# EAGLE library part TMM-105-XX-X-D (library con-samtec-tmm)
HEADER
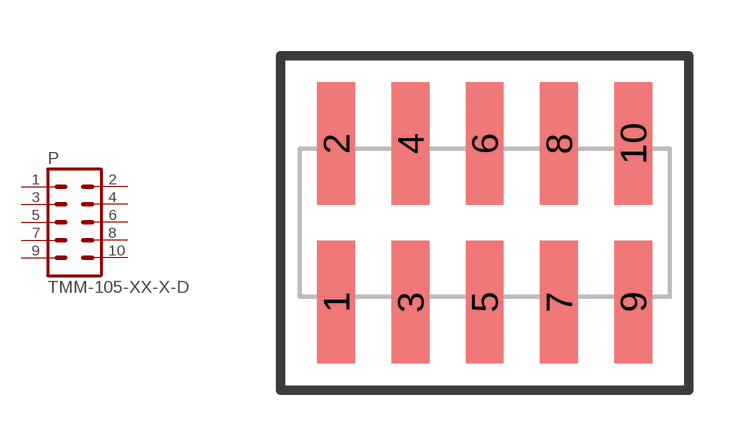
[diagram p2: symbol with the pads of TMM-105-XX-X-D; footprint TMM-105-XX-X-D]

Designator prefix P

## TMM-105-XX-X-D  [TMM-105-XX-X-D]
1  1  pas
2  2  pas
3  3  pas
4  4  pas
5  5  pas
6  6  pas
7  7  pas
8  8  pas
9  9  pas
10  10  pas

## Footprint TMM-105-XX-X-D (pad centres in mm)
HEADER
smd 1.02 x 3.3: 1 -4,-2.134; 2 -4,2.134; 3 -2,-2.134; 4 -2,2.134; 5 0,-2.134; 6 0,2.134; 7 2,-2.134; 8 2,2.134; 9 4,-2.134; 10 4,2.134